# Altium footprint library BQ4050.PcbLib: 55 footprints (part 1 of 4)
Each footprint in its own frame and in the unit in brackets; x right, y up, seen from the top. Pads: shape width x height; smd on the part's side, far side on the other; paste and mask are expansions set on the pad; w line width, h text height; cw(c..) or ccw(c..) is an arc to the next point about the centre after c.
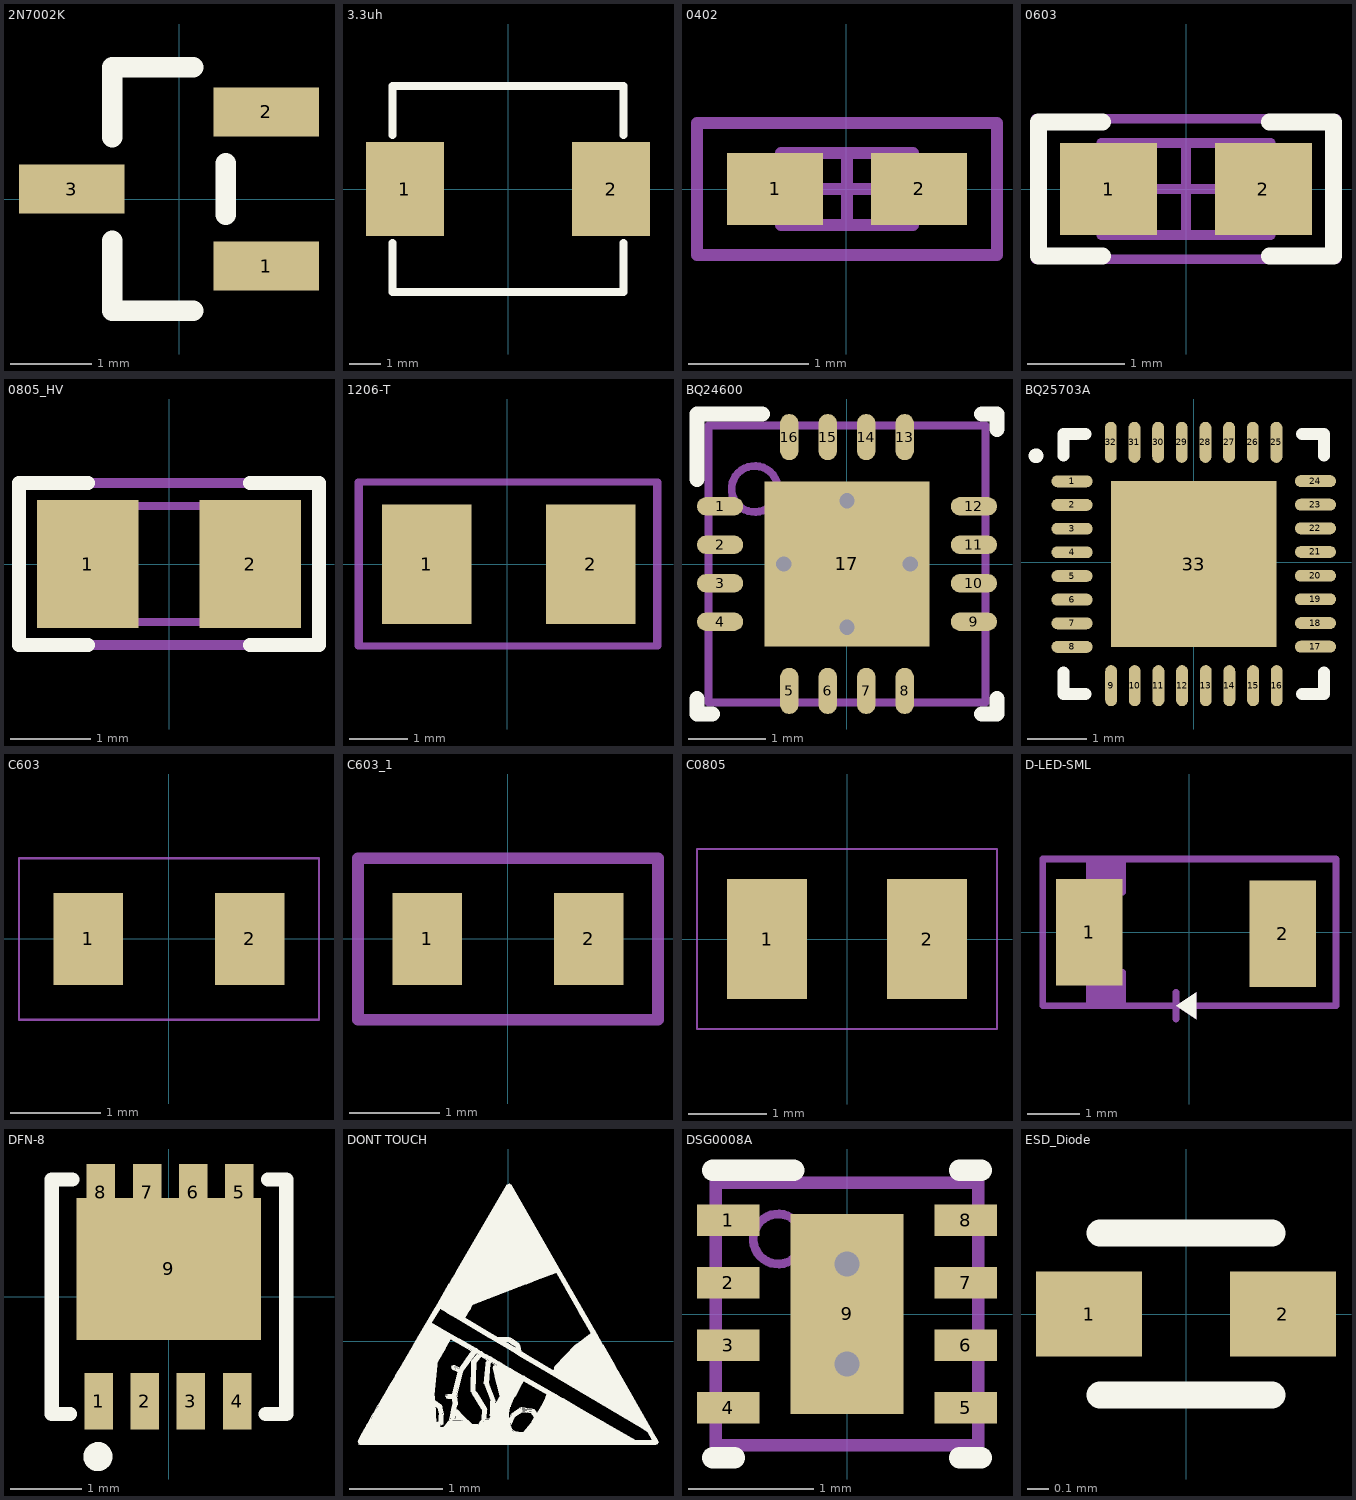
[diagram p0: the footprints below, top view; thin cyan lines are the x and y axes]

## 2N7002K [mm]
pads (3):
  rect 1.3x0.6 smd: 1(1.073,-0.823) 2(1.073,1.077) 3(-1.327,0.127)
Top Overlay:
  lines w0.254: -0.827,-0.509 -0.827,-1.373 0.173,-1.373 ; -0.827,0.763 -0.827,1.627 0.173,1.627 ; 0.573,-0.187 0.573,0.441

## 3.3uh [mm]
pads (2):
  rect 2.5x3 smd: 1(-3.302,0) 2(3.302,0)
Top Overlay:
  lines w0.254: -3.7,-1.731 -3.7,-3.3 3.7,-3.3 3.7,-1.731 ; -3.7,1.731 -3.7,3.3 3.7,3.3 3.7,1.731

## 0402 [mm] "0402 from SM-752 data"
height 0.6
pads (2):
  rect 0.8x0.6 smd: 1(-0.594,0.001) 2(0.606,0.001)
Mechanical 5:
  lines w0.1: -1.244,-0.549 -1.244,0.551 1.256,0.551 1.256,-0.549 -1.244,-0.549
Mechanical 13:
  lines w0.1: -0.344,-0.299 -0.344,0.301 ; 0.356,-0.299 0.356,0.301 ; -0.544,-0.299 0.556,-0.299 0.556,0.301 -0.544,0.301 -0.544,-0.299
Mechanical 15:
  lines w0.1: -0.294,0.001 0.306,0.001 ; 0.006,-0.299 0.006,0.301 ; -1.244,-0.549 1.256,-0.549 1.256,0.551 -1.244,0.551 -1.244,-0.549
3D body: height 0.6, standoff 0, extent 0.357,-0.298 0.556,0.301
3D body: height 0.6, standoff 0, extent -0.343,-0.298 0.356,0.301
3D body: height 0.6, standoff 0, extent -0.543,-0.298 -0.344,0.301

## 0603 [mm] "0603 from SM-752 data"
height 0.85
pads (2):
  rect 1x0.95 smd: 1(-0.8,0) 2(0.8,0)
Top Overlay:
  lines w0.178: -0.864,-0.691 -1.524,-0.691 -1.524,0.693 -0.864,0.693 ; 0.864,-0.691 1.524,-0.691 1.524,0.693 0.864,0.693
Mechanical 5:
  lines w0.1: -1.55,-0.725 -1.55,0.725 1.55,0.725 1.55,-0.725 -1.55,-0.725
Mechanical 13:
  lines w0.1: -0.55,-0.475 -0.55,0.475 ; 0.55,-0.475 0.55,0.475 ; -0.875,-0.475 0.875,-0.475 0.875,0.475 -0.875,0.475 -0.875,-0.475
Mechanical 15:
  lines w0.1: -0.475,0 0.475,0 ; 0,-0.475 0,0.475 ; -1.55,-0.725 1.55,-0.725 1.55,0.725 -1.55,0.725 -1.55,-0.725
3D body: height 1, standoff 0, extent -0.874,-0.474 -0.551,0.474
3D body: height 1, standoff 0, extent -0.549,-0.474 0.549,0.474
3D body: height 1, standoff 0, extent 0.551,-0.474 0.874,0.474

## 0805_HV [mil]
pads (2):
  rect 50x63 smd: 1(-40,0) 2(40,0)
Top Overlay:
  lines w7: -40,-40 -74,-40 -74,0 -74,40 -40,40 ; 40,-40 74,-40 74,0 74,40 40,40
Mechanical 5:
  lines w5: -74,-40 -74,40 74,40 74,-40 -74,-40
Mechanical 13:
  lines w3.94: -25.59,-28.54 -25.59,28.54 ; 25.59,-28.54 25.59,28.54 ; -43.31,-28.54 -43.31,28.54 43.31,28.54 43.31,-28.54 -43.31,-28.54
3D body: height 57.09, standoff 0, extent 25.61,-28.52 43.29,28.52
3D body: height 57.09, standoff 0, extent -25.57,-28.52 25.57,28.52
3D body: height 57.09, standoff 0, extent -43.29,-28.52 -25.61,28.52

## 1206-T [mil]
pads (2):
  rect 60x80 smd mask+2: 1(-54,0) 2(56,0)
Mechanical 6:
  lines w5: -100,-54.9 100,-54.9 100,55 -100,55 -100,-54.9 ; -99,-54.9 101,-54.9 101,55 -99,55 -99,-54.9

## BQ24600 [mm]
pads (17):
  oval 0.6x0.24 smd: 1(-1.65,0.75) 2(-1.65,0.25) 3(-1.65,-0.25) 4(-1.65,-0.75) 9(1.65,-0.75) 10(1.65,-0.25) 11(1.65,0.25) 12(1.65,0.75)
  oval 0.24x0.6 smd: 5(-0.75,-1.65) 6(-0.25,-1.65) 7(0.25,-1.65) 8(0.75,-1.65) 13(0.75,1.65) 14(0.25,1.65) 15(-0.25,1.65) 16(-0.75,1.65)
  rect 2.14x2.14 smd paste-1.07: 17(0,0)
via -0.82,0 diameter 0.5 hole 0.2
via 0,0.82 diameter 0.5 hole 0.2
via 0,-0.82 diameter 0.5 hole 0.2
via 0.82,0 diameter 0.5 hole 0.2
Top Overlay:
  lines w0.2: -1.95,-1.75 -1.95,-1.95 -1.75,-1.95 ; -1.95,1.1 -1.95,1.95 -1.1,1.95 ; 1.75,-1.95 1.95,-1.95 1.95,-1.75 ; 1.75,1.95 1.95,1.95 1.95,1.75
Top Paste:
  rectangle: 0.1,0.1 1.057,1.057
  region: -0.1,1.057 -1.057,1.057 -1.057,0.1 -0.1,0.1
  region: -0.1,-0.1 -1.057,-0.1 -1.057,-1.057 -0.1,-1.057
  rectangle: 0.1,-1.057 1.057,-0.1
Mechanical 5:
  circle w0.1: c-1.2,0.975 r0.3
  lines w0.1: -1.8,-1.8 -1.8,1.8 1.8,1.8 1.8,-1.8 -1.8,-1.8
3D body: height 1, standoff 0, extent -1.8,-1.8 1.8,1.8
3D body: height 1.01, standoff 0.5, extent -1.499,0.676 -0.901,1.274
3D body "RVA0016A.stp": height 1, standoff 0, extent -1.75,-1.75 1.75,1.75

## BQ25703A [mm]
pads (33):
  oval 0.695x0.2 smd: 1(-2.057,1.372) 2(-2.057,0.973) 3(-2.057,0.572) 4(-2.057,0.173) 5(-2.057,-0.229) 6(-2.057,-0.627) 7(-2.057,-1.029) 8(-2.057,-1.427) 17(2.057,-1.422) 18(2.057,-1.024) 19(2.057,-0.622) 20(2.057,-0.224) 21(2.057,0.178) 22(2.057,0.577) 23(2.057,0.978) 24(2.057,1.377)
  oval 0.2x0.695 smd: 9(-1.397,-2.083) 10(-0.998,-2.083) 11(-0.597,-2.083) 12(-0.198,-2.083) 13(0.203,-2.083) 14(0.602,-2.083) 15(1.003,-2.083) 16(1.402,-2.083) 25(1.397,2.032) 26(0.998,2.032) 27(0.597,2.032) 28(0.198,2.032) 29(-0.203,2.032) 30(-0.602,2.032) 31(-1.003,2.032) 32(-1.402,2.032)
  rect 2.8x2.8 smd: 33(0,-0.025)
Top Overlay:
  circle w0.25: c-2.667,1.804 r0
  lines w0.2: -2.2,-1.855 -2.2,-2.225 -1.83,-2.225 ; -2.2,1.805 -2.2,2.174 -1.83,2.174 ; 1.83,-2.225 2.2,-2.225 2.2,-1.855 ; 1.83,2.174 2.2,2.174 2.2,1.805

## C603 [mil]
pads (2):
  rect 30x40 smd mask+2: 1(-35,0) 2(35,0)
Mechanical 5:
  lines w1: -65,-35 -65,35 65,35 65,-35 -65,-35

## C603_1 [mil]
pads (2):
  rect 30x40 smd mask+2: 1(-35,0) 2(35,0)
Mechanical 5:
  lines w5: -65,-35 65,-35 65,35 -65,35 -65,-35

## C0805 [mil]
pads (2):
  rect 40x60 smd mask+2: 1(-40,0) 2(40,0)
Mechanical 5:
  lines w1: -75,-45 -75,45 75,45 75,-45 -75,-45

## D-LED-SML [mil]
pads (2):
  rect 50x80 smd: 1(-75,0) 2(70,-1)
Top Overlay:
  region: -10,-55 5,-65 5,-45
Mechanical 5:
  region: -10,-55 5,-65 5,-45
  lines w5: -110,-55 110,-55 ; -110,-54.9 -110,55 110,55 110,-54.9 ; -75,-50 -55,-30 ; -75,-45 -60,-30 ; -75,-40 -65,-30 ; -75,-35 -70,-30 ; -75,35 -55,55 ; -75,40 -60,55 ; -75,45 -65,55 ; -75,50 -70,55 ; -75,55 -75,30 ; -70,-55 -50,-35 ; -70,30 -50,50 ; -65,-55 -50,-40 ; -65,30 -50,45 ; -60,-55 -50,-45 ; -60,30 -50,40 ; -55,-55 -50,-50 ; -55,30 -50,35 ; -75,-55 -75,-30 -50,-30 ; -75,-55 -50,-30 ; -75,-55 -50,-55 ; -75,30 -50,55 -50,30 -75,30 ; -50,-55 -50,-30 ; -50,-55 -50,-30 ; -10,-65 -10,-45 -10,-65

## DFN-8 [mil]
pads (9):
  rect 15.74x31.5 smd: 1(-39.04,-57.87) 2(-13.45,-57.87) 3(12.14,-57.87) 4(37.73,-57.87) 5(39.04,57.87) 6(13.44,57.87) 7(-12.16,57.87) 8(-37.76,57.87)
  rect 102.36x78.74 smd: 9(-0.18,15.49)
Top Overlay:
  circle w7.87: c-39.37,-88.58 r4.12
  lines w7.87: -54.95,-64.96 -64.96,-64.96 -64.96,64.96 -53.66,64.96 ; 53.64,-64.96 64.96,-64.96 64.96,64.96 54.95,64.96

## DONT TOUCH [mm]
Top Overlay:
  drawing of 901 lines, arcs and shapes, not listed

## DSG0008A [mm] "SON, 8-Leads, Body 2x2mm, Pitch 0.5mm, Thermal Pad 1.6x0.9mm, TI Recommended"
height 0.8
pads (9):
  rect 0.5x0.25 smd: 1(-0.95,0.75) 2(-0.95,0.25) 3(-0.95,-0.25) 4(-0.95,-0.75) 5(0.95,-0.75) 6(0.95,-0.25) 7(0.95,0.25) 8(0.95,0.75)
  rect 0.9x1.6 smd paste-0.45: 9(0,0)
via 0,-0.4 diameter 0.5 hole 0.2
via 0,0.4 diameter 0.5 hole 0.2
Top Overlay:
  lines w0.17: -1.075,-1.15 -0.9,-1.15 ; -1.075,1.15 -0.425,1.15 ; 0.9,-1.15 1.075,-1.15 ; 0.9,1.15 1.075,1.15
Top Paste:
  rectangle: -0.427,-0.733 0.427,0.733
Mechanical 5:
  circle w0.07: c-0.55,0.6 r0.2
  lines w0.1: -1.05,-1.05 1.05,-1.05 1.05,1.05 -1.05,1.05 -1.05,-1.05
3D body: height 0.8, standoff 0.5, extent -0.749,0.401 -0.351,0.799
3D body: height 0.8, standoff 0, extent -1.05,-1.05 1.05,1.05

## ESD_Diode [mil]
pads (2):
  rect 19.68x15.74 smd: 1(-18,0) 2(18,0)
Top Overlay:
  lines w5: -16,-15 16,-15 ; -16,15 16,15